# Altium integrated library 2P_Vert_Microfit.IntLib: 1 symbol
Pins are listed as number, name and electrical type; pins without a type are passive.

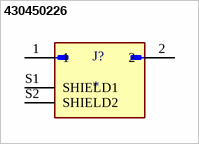
[diagram p0: symbol 430450226]

## 430450226
designator J?
Conn Power HDR 2 POS Solder ST Thru-Hole 2 Terminal 1 Port Micro-Fit 3.0â„¢ Tray; MP: 430450226; MF: Molex; Package: None; Check_prices: https://www.snapeda.com/parts/430450226/Molex/view-part/?ref=eda; Purchase-URL: https://pricing.snapeda.com/search/part/430450226/?ref=eda; Value: *; Availability: In Stock; Price: None; SnapEDA_Link: https://www.snapeda.com/parts/430450226/Molex/view-part/?ref=snap
footprint MOLEX_430450226
pins: 1, 2, S1 SHIELD1, S2 SHIELD2